# Altium footprint library OPL_Optoelectronics.PCBLIB: 8 footprints
Each footprint in its own frame and in the unit in brackets; x right, y up, seen from the top. Pads: shape width x height; smd on the part's side, far side on the other; paste and mask are expansions set on the pad; w line width, h text height; cw(c..) or ccw(c..) is an arc to the next point about the centre after c.
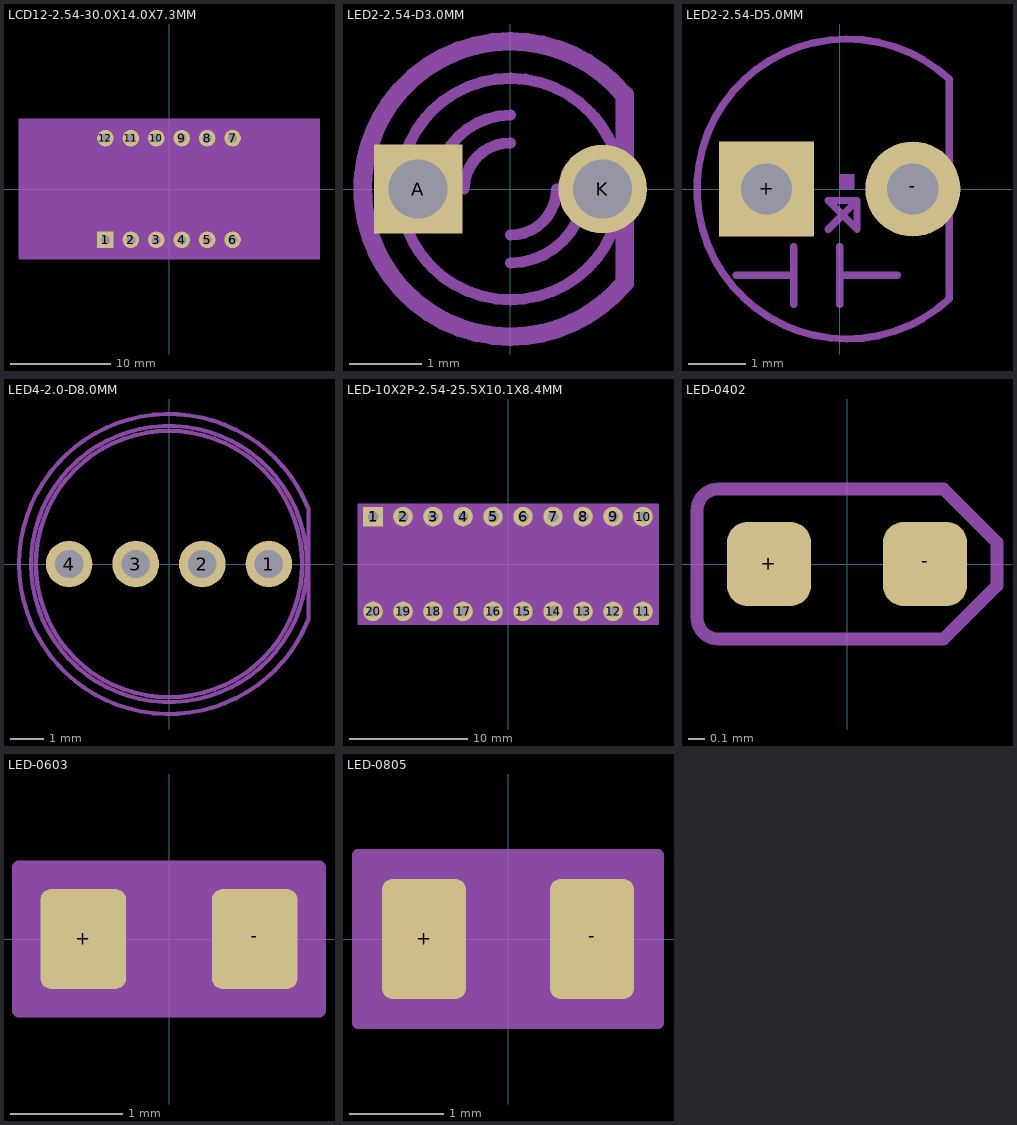
[diagram p0: the footprints below, top view; thin cyan lines are the x and y axes]

## LCD12-2.54-30.0X14.0X7.3MM [mil]
pads (12):
  rect 65x65 hole 35: 1(-250,-200)
  round 65 hole 35: 2(-150,-200) 3(-50,-200) 4(50,-200) 5(150,-200) 6(250,-200) 7(250,200) 8(150,200) 9(50,200) 10(-50,200) 11(-150,200) 12(-250,200)
Mechanical 2:
  lines w5: -590,-275 590,-275 590,275 -590,275 -590,-275
Mech34:
  region: -590,-275 -590,275 590,275 590,-275

## LED2-2.54-D3.0MM [mil]
pads (2):
  rect 48x48 hole 32: A(-50,0)
  round 48 hole 32: K(50,0)
Mechanical 2:
  lines w6: -48,36 cw(c0,0) 0,60 cw(c-0.01,0) 48.82,34.87 ; -47.36,-36.83 ccw(c0.01,0) 0,-60 ccw(c-0.01,0) 47.36,-36.83
  lines w10: -70.59,37.65 cw(c0,0) 0,80 cw(c0.01,0) 61.46,51.22 ; -69.46,-39.69 ccw(c0,0) 0,-80 ccw(c0,0) 61.07,-51.68 ; 62,-51 62,-33 ; 62,31 62,51
Mechanical 8:
  lines w6: -46.09,38.41 ccw(c0,-0.01) -60,0 ccw(c0,-0.01) -44.85,-39.86 ; -40,0 cw(c0,0) 0,40 ; -25,0 cw(c0,0) 0,25 ; 0,-40 ccw(c0,0) 40,0 ; 0,-25 ccw(c0,0) 25,0 ; 45.56,39.05 cw(c0,0.01) 60,0 cw(c0,0.01) 46.09,-38.41
  lines w10: -70.44,37.93 ccw(c0,0.01) -80,0 ccw(c0,0) -68.13,-41.93 ; 62,-50 62,50
Mech34:
  lines w5: 60,-50 cw(c-2.5,0) 60,50 60,-50

## LED2-2.54-D5.0MM [mil]
pads (2):
  rect 65x65 hole 35: +(-49.99,0)
  round 65 hole 35: -(49.99,0)
Mechanical 2:
  region: 0,0 10,0 10,10 0,10
  lines w5: -70.87,-59.06 -31.5,-59.06 ; -31.5,-78.74 -31.5,-59.06 ; -31.5,-39.37 -31.5,-59.06 ; -7.87,-27.56 11.81,-7.87 ; 0,-78.74 0,-59.06 ; 0,-39.37 0,-59.06 ; 39.37,-59.06 0,-59.06 ; 74.8,-74.8 74.8,-35.43 ; 74.8,27.56 74.8,74.8 ; 75,-75 cw(c5,0) 75,75 ; 11.81,-7.87 -7.87,-7.87 11.81,-27.56 11.81,-7.87
Mechanical 8:
  lines w5: 75,-75 75,75

## LED4-2.0-D8.0MM [mm]
pads (4):
  round 1.4 hole 0.85: 1(3,0) 2(1,0) 3(-1,0) 4(-3,0)
Mechanical 2:
  circle w0.127: c0,0 r4
  lines w0.127: 4.191,-1.651 4.191,1.651 ccw(c0,0) 4.191,-1.651
Mech34:
  circle w0.127: c0,0 r4.147

## LED-10X2P-2.54-25.5X10.1X8.4MM [mil]
pads (20):
  rect 65x65 hole 35: 1(-450,158)
  round 65 hole 35: 2(-350,158) 3(-250,158) 4(-150,158) 5(-50,158) 6(50,158) 7(150,158) 8(250,158) 9(350,158) 10(450,158) 11(450,-158) 12(350,-158) 13(250,-158) 14(150,-158) 15(50,-158) 16(-50,-158) 17(-150,-158) 18(-250,-158) 19(-350,-158) 20(-450,-158)
Mechanical 2:
  lines w5: -500,-200 500,-200 500,200 -500,200 -500,-200
Mech34:
  region: -500,-200 -500,200 500,200 500,-200

## LED-0402 [mil]
pads (2):
  rrect50% 19.69x19.69 smd: +(-18.21,0) -(18.21,0)
Mechanical 2:
  lines w3: -35,-12.5 ccw(c-30,-12.5) -30,-17.5 22.5,-17.5 35,-5 35,5 22.5,17.5 -30,17.5 ccw(c-30,12.5) -35,12.5 -35,-12.5

## LED-0603 [mil]
pads (2):
  rrect25% 30x35 smd: +(-30,0) -(30,0)
Mechanical 2:
  lines w5: -2.5,-10 -2.5,10 ; 0,-7.5 -5,-15 -5,15 0,7.5 ; 0,-7.5 5,0 0,7.5 ; 0,-7.5 0,7.5 ; -52.5,-25 52.5,-25 52.5,25 -52.5,25 -52.5,-25
Mech34:
  region: -50,-22.5 -50,22.5 50,22.5 50,-22.5

## LED-0805 [mil]
pads (2):
  rrect25% 35x50 smd: +(-35,0) -(35,0)
Mechanical 2:
  lines w5: -7.5,-10 -7.5,0 ; -7.5,-10 -7.5,-20 0,-10 ; -7.5,-10 0,-10 ; -7.5,0 -7.5,10 ; -7.5,0 2.5,-5 -7.5,10 ; -7.5,0 0,-10 ; -7.5,10 -7.5,20 ; -7.5,10 5,-2.5 -7.5,20 ; -7.5,20 7.5,0 0,-10 ; -62.5,-35 62.5,-35 62.5,35 -62.5,35 -62.5,-35
Mech34:
  region: -62.5,-35 -62.5,35 62.5,35 62.5,-35